# Altium footprint library Espressif ESP32-WROOM-32.PcbLib: 1 footprints
Each footprint in its own frame and in the unit in brackets; x right, y up, seen from the top. Pads: shape width x height; smd on the part's side, far side on the other; paste and mask are expansions set on the pad; w line width, h text height; cw(c..) or ccw(c..) is an arc to the next point about the centre after c.
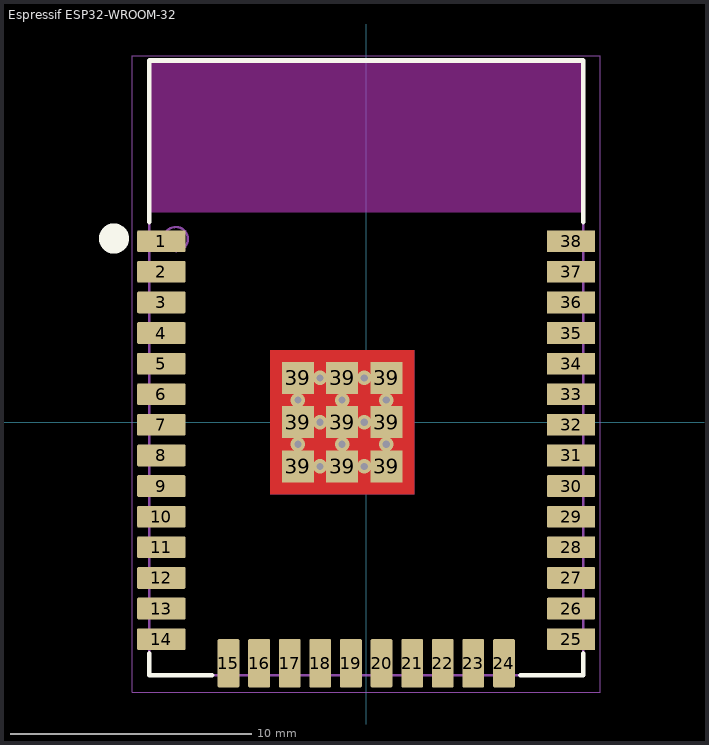
[diagram p0: the footprint, top view; thin cyan lines are the x and y axes]

## Espressif ESP32-WROOM-32 [mm] "39-SMD Module"
height 3.2
pads (47):
  rrect10% 2x0.9 smd paste+0 mask+0.05: 1(-8.5,7.51) 2(-8.5,6.24) 3(-8.5,4.97) 4(-8.5,3.7) 5(-8.5,2.43) 6(-8.5,1.16) 7(-8.5,-0.11) 8(-8.5,-1.38) 9(-8.5,-2.65) 10(-8.5,-3.92) 11(-8.5,-5.19) 12(-8.5,-6.46) 13(-8.5,-7.73) 14(-8.5,-9) 25(8.5,-9) 26(8.5,-7.73) 27(8.5,-6.46) 28(8.5,-5.19) 29(8.5,-3.92) 30(8.5,-2.65)
  rrect10% 0.9x2 smd paste+0 mask+0.05: 15(-5.715,-10) 16(-4.445,-10) 17(-3.175,-10) 18(-1.905,-10) 19(-0.635,-10) 20(0.635,-10) 21(1.905,-10) 22(3.175,-10) 23(4.445,-10) 24(5.715,-10)
  rect 2x0.9 smd paste+0 mask+0.05: 31(8.5,-1.38) 32(8.5,-0.11) 33(8.5,1.16) 34(8.5,2.43) 35(8.5,3.7) 36(8.5,4.97) 37(8.5,6.24) 38(8.5,7.51)
  rect 1.33x1.33 smd paste+0 mask+0.05: 39(-2.835,-1.835) 39(-2.835,0) 39(-2.835,1.835) 39(-1,0) 39(-1,-1.835) 39(-1,1.835) 39(0.835,-1.835) 39(0.835,0) 39(0.835,1.835)
via -1.918,0 diameter 0.6 hole 0.3
via -1.918,1.835 diameter 0.6 hole 0.3
via -0.083,1.835 diameter 0.6 hole 0.3
via -0.083,0 diameter 0.6 hole 0.3
via -1.918,-1.835 diameter 0.6 hole 0.3
via -0.083,-1.835 diameter 0.6 hole 0.3
via -2.835,-0.918 diameter 0.6 hole 0.3
via -2.835,0.917 diameter 0.6 hole 0.3
via -1,-0.918 diameter 0.6 hole 0.3
via -1,0.917 diameter 0.6 hole 0.3
via 0.835,-0.918 diameter 0.6 hole 0.3
via 0.835,0.917 diameter 0.6 hole 0.3
Top Layer:
  rectangle: -4,-3 2,3
Bottom Layer:
  rectangle: -4,-3 2,3
Top Overlay:
  circle w0.75: c-10.465,7.62 r0.25
  lines w0.2: -9,-9.6 -9,-10.5 -6.4,-10.5 ; -9,8.3 -9,15 9,15 9,8.3 ; 6.4,-10.5 9,-10.5 9,-9.6
Keep-Out Layer:
  region: -9,15 9,15 9,8.7 -9,8.7
Mechanical 13:
  circle w0.1: c-7.9,7.6 r0.5
  lines w0.1: -9,-10.5 9,-10.5 9,15 -9,15 -9,-10.5
Mechanical 15:
  lines w0.05: -0.5,0.001 0.5,0.001 ; 0,-0.499 0,0.501 ; -9.7,-11.2 -9.7,15.2 9.7,15.2 9.7,-11.2 -9.7,-11.2
3D body "Espressif - ESP32-WROOM-32.step": height 3.2, standoff 0, extent -9,-10.5 9,15